# Altium footprint library TO220AB.PcbLib: 1 footprints
Each footprint in its own frame and in the unit in brackets; x right, y up, seen from the top. Pads: shape width x height; smd on the part's side, far side on the other; paste and mask are expansions set on the pad; w line width, h text height; cw(c..) or ccw(c..) is an arc to the next point about the centre after c.
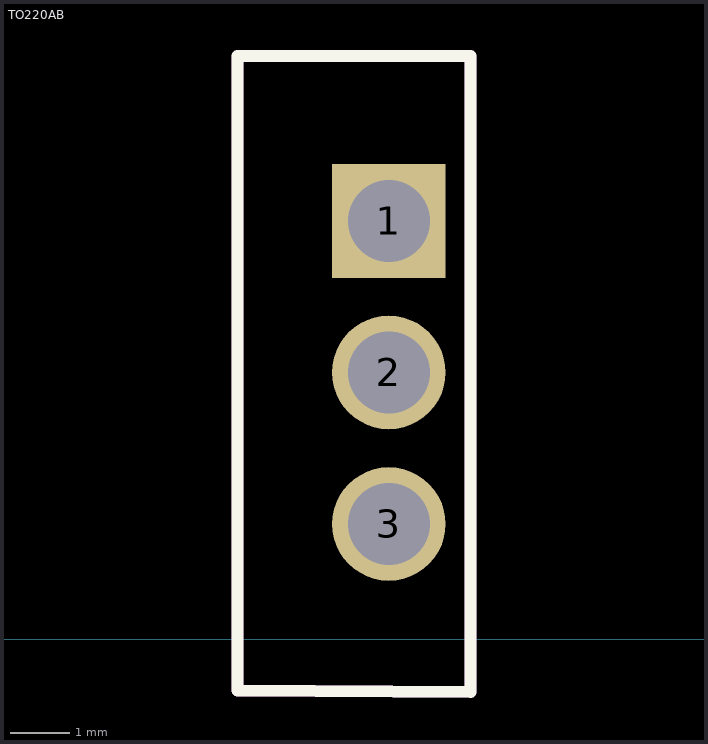
[diagram p0: the footprint, top view; thin cyan lines are the x and y axes]

## TO220AB [mil]
pads (3):
  rect 75x75 hole 54: 1(411.27,276.17)
  round 75 hole 54: 2(411.27,176.17) 3(411.27,76.17)
Top Overlay:
  lines w8: 311.27,-33.83 465.27,-34.83 465.27,385.17 311.27,385.17 311.27,-33.83
Mechanical 1:
  lines w8: 311.27,-33.83 465.27,-34.83 465.27,385.17 311.27,385.17 311.27,-33.83